# Altium footprint library LIB_COLLAR.PcbLib: 34 footprints (part 1 of 3)
Each footprint in its own frame and in the unit in brackets; x right, y up, seen from the top. Pads: shape width x height; smd on the part's side, far side on the other; paste and mask are expansions set on the pad; w line width, h text height; cw(c..) or ccw(c..) is an arc to the next point about the centre after c.
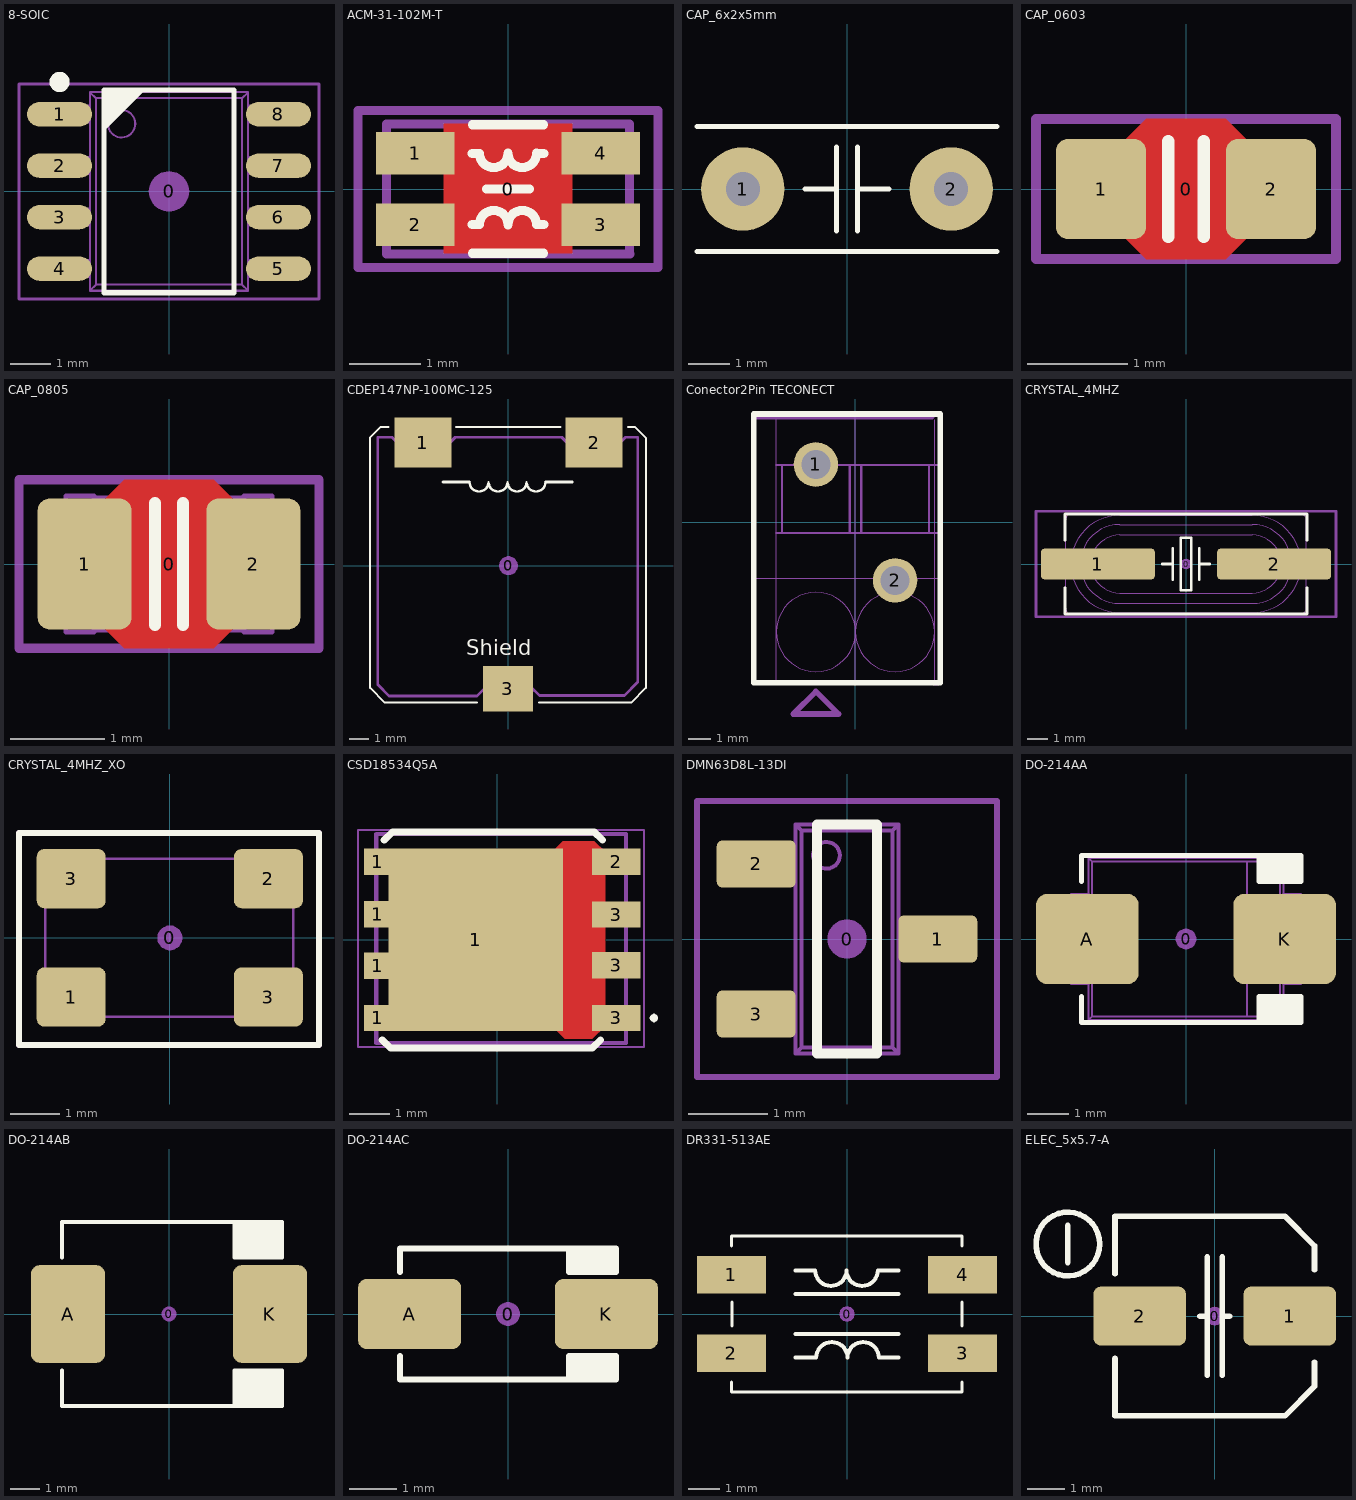
[diagram p0: the footprints below, top view; thin cyan lines are the x and y axes]

## 8-SOIC [mm] "SOIC, 8-Leads, Body 4.9x3.9mm, Pitch 1.27mm, IPC Medium Density"
height 1.75
pads (9):
  round 1 on Mech15: 0(0,0)
  oval 1.6x0.6 smd: 1(-2.7,1.905) 2(-2.7,0.635) 3(-2.7,-0.635) 4(-2.7,-1.905) 5(2.7,-1.905) 6(2.7,-0.635) 7(2.7,0.635) 8(2.7,1.905)
Top Overlay:
  circle w0.25: c-2.7,2.7 r0.125
  region: -1.6,2.5 -0.6,2.5 -1.6,1.5
  lines w0.127: -1.6,-2.5 -1.6,2.5 1.6,2.5 1.6,-2.5 -1.6,-2.5
Mechanical 13:
  circle w0.05: c-1.17,1.67 r0.338
  lines w0.05: -2.631,-2.115 -2.631,-1.695 ; -2.631,-0.845 -2.631,-0.425 ; -2.631,0.425 -2.631,0.845 ; -2.631,1.695 -2.631,2.115 ; -2.543,-2.115 -2.543,-1.695 ; -2.543,-0.845 -2.543,-0.425 ; -2.543,0.425 -2.543,0.845 ; -2.543,1.695 -2.543,2.115 ; -2.403,-2.115 -2.403,-1.695 ; -2.403,-0.845 -2.403,-0.425 ; -2.403,0.425 -2.403,0.845 ; -2.403,1.695 -2.403,2.115 ; -2.113,-2.115 -2.113,-1.695 ; -2.113,-0.845 -2.113,-0.425 ; -2.113,0.425 -2.113,0.845 ; -2.113,1.695 -2.113,2.115 ; -1.95,-2.115 -3,-2.115 -3,-1.695 -1.95,-1.695 ; -1.95,-0.845 -3,-0.845 -3,-0.425 -1.95,-0.425 ; -1.95,0.425 -3,0.425 -3,0.845 -1.95,0.845 ; -1.95,1.695 -3,1.695 -3,2.115 -1.95,2.115 ; 1.95,-2.115 3,-2.115 3,-1.695 1.95,-1.695 ; 1.95,-0.845 3,-0.845 3,-0.425 1.95,-0.425 ; 1.95,0.425 3,0.425 3,0.845 1.95,0.845 ; 1.95,1.695 3,1.695 3,2.115 1.95,2.115 ; 2.113,-2.115 2.113,-1.695 ; 2.113,-0.845 2.113,-0.425 ; 2.113,0.425 2.113,0.845 ; 2.113,1.695 2.113,2.115 ; 2.403,-2.115 2.403,-1.695 ; 2.403,-0.845 2.403,-0.425 ; 2.403,0.425 2.403,0.845 ; 2.403,1.695 2.403,2.115 ; 2.543,-2.115 2.543,-1.695 ; 2.543,-0.845 2.543,-0.425 ; 2.543,0.425 2.543,0.845 ; 2.543,1.695 2.543,2.115 ; 2.631,-2.115 2.631,-1.695 ; 2.631,-0.845 2.631,-0.425 ; 2.631,0.425 2.631,0.845 ; 2.631,1.695 2.631,2.115 ; -1.95,-2.45 1.95,-2.45 ; -1.95,-2.45 -1.95,2.45 ; -1.95,-2.45 -1.801,-2.301 ; -1.95,2.45 -1.801,2.301 ; -1.95,2.45 1.95,2.45 ; -1.801,-2.301 1.801,-2.301 ; -1.801,-2.301 -1.801,2.301 ; -1.801,2.301 1.801,2.301 ; 1.801,-2.301 1.95,-2.45 ; 1.801,-2.301 1.801,2.301 ; 1.801,2.301 1.95,2.45 ; 1.95,-2.45 1.95,2.45
Mechanical 15:
  lines w0.076: -3.7,-2.65 -3.7,2.65 3.7,2.65 3.7,-2.65 -3.7,-2.65
3D body "SOIC-8.STEP": height 1.75, standoff 0, extent -3,-2.45 3,2.45

## ACM-31-102M-T [mm] "Common-mode choke, Body 3.2x1.8x2.2mm"
height 2.2
pads (5):
  round 0.5 on Mech15: 0(0,0)
  rrect1% 1.1x0.6 smd: 1(-1.3,0.5) 2(-1.3,-0.5) 3(1.3,-0.5) 4(1.3,0.5)
Top Layer:
  pour cut-out: -0.9,0.91 0.9,0.91 0.9,-0.9 -0.9,-0.9
Top Overlay:
  lines w0.127: -0.5,-0.9 0.5,-0.9 ; -0.5,-0.5 -0.4,-0.5 cw(c-0.2,-0.5) 0,-0.5 cw(c0.2,-0.5) 0.4,-0.5 0.5,-0.5 ; -0.5,0.5 -0.4,0.5 ccw(c-0.2,0.5) 0,0.5 ccw(c0.2,0.5) 0.4,0.5 0.5,0.5 ; -0.5,0.9 0.5,0.9 ; -0.3,0 0.3,0
Mechanical 13:
  lines w0.127: 1.7,-0.91 1.7,0.91 -1.7,0.91 -1.7,-0.91 1.71,-0.91
Mechanical 15:
  lines w0.127: -2.1,-1.1 2.1,-1.1 2.1,1.1 -2.1,1.1 -2.1,-1.1
3D body "Common mode choke - 1206 SMD.STEP": height 2.2, standoff 0, extent -1.71,-0.91 1.71,0.91

## CAP_6x2x5mm [mm] "Capacitor, THT, Metallized Polyester Film"
height 11
pads (2):
  round 2 hole 0.813: 1(-2.5,0) 2(2.5,0)
Top Overlay:
  lines w0.127: -3.6,-1.5 3.6,-1.5 ; -3.6,1.5 3.6,1.5 ; -1,0 -0.25,0 ; -0.25,-1 -0.25,1 ; 0.25,-1 0.25,1 ; 0.25,0 1,0
3D body "Cap, film, 7.2x2.5x6.5x5LS.STEP": height 7.5, standoff -2, extent -3.6,-1.25 3.6,1.25

## CAP_0603 [mm] "Chip Capacitor, Body 1.6x0.8mm, EIA 0603, IPC Medium Density"
height 0.9
pads (3):
  round 0.254 on Mech15: 0(0,0)
  rrect25% 0.9x1 smd: 1(-0.85,0) 2(0.85,0)
Top Layer:
  pour cut-out: -0.6,0.5 -0.4,0.7 0.4,0.7 0.6,0.5 0.6,-0.5 0.4,-0.7 -0.4,-0.7 -0.6,-0.5
Top Overlay:
  lines w0.127: -0.178,-0.476 -0.178,0.476 ; 0.178,-0.476 0.178,0.476
Mechanical 13:
  lines w0.05: -0.55,-0.43 0.55,-0.43 ; -0.55,0.43 0.55,0.43 ; -0.85,-0.45 -0.55,-0.45 -0.55,0.45 -0.85,0.45 -0.85,-0.45 ; 0.55,-0.45 0.85,-0.45 0.85,0.45 0.55,0.45 0.55,-0.45
Mechanical 15:
  lines w0.1: -1.5,-0.7 1.5,-0.7 1.5,0.7 -1.5,0.7 -1.5,-0.7
3D body "CAP_0603.STEP": height 0.89, standoff -0.01, extent -0.85,-0.45 0.85,0.45

## CAP_0805 [mm] "Chip Capacitor, Body 2.0x1.2mm, EIA 0805, IPC Medium Density"
height 1.35
pads (3):
  round 0.254 on Mech15: 0(0,0)
  rrect25% 1x1.4 smd: 1(-0.9,0) 2(0.9,0)
Top Layer:
  pour cut-out: -0.675,0.7 -0.475,0.9 0.475,0.9 0.675,0.7 0.675,-0.7 0.475,-0.9 -0.475,-0.9 -0.675,-0.7
Top Overlay:
  lines w0.127: -0.15,-0.651 -0.15,0.651 ; 0.15,-0.651 0.15,0.651
Mechanical 13:
  lines w0.05: -0.8,-0.705 0.8,-0.705 ; -0.8,0.705 0.8,0.705 ; -1.1,-0.725 -0.8,-0.725 -0.8,0.725 -1.1,0.725 -1.1,-0.725 ; 0.8,-0.725 0.8,0.725 1.1,0.725 1.1,-0.725 0.8,-0.725
Mechanical 15:
  lines w0.1: -1.6,-0.9 1.6,-0.9 1.6,0.9 -1.6,0.9 -1.6,-0.9
3D body "CAP_0805.STEP": height 1.34, standoff -0.01, extent -1.1,-0.725 1.1,0.725

## CDEP147NP-100MC-125 [mm]
pads (4):
  round 1 on Mech15: 0(0,0)
  rect 3x2.65 smd: 1(-4.5,6.475) 2(4.5,6.475)
  rect 2.65x2.4 smd: 3(-0.025,-6.475)
Top Overlay:
  lines w0.1: -6.3,7.3 -6.725,7.3 -7.275,6.75 -7.275,-6.425 -6.5,-7.2 -1.65,-7.2 ; -2.756,7.3 2.75,7.3 ; 1.6,-7.2 6.45,-7.2 7.225,-6.425 7.225,6.725 6.65,7.3 6.275,7.3
  lines w0.127: -2.05,4.4 ccw(c-1.55,4.4) -1.05,4.4 ccw(c-0.55,4.4) -0.05,4.4 ccw(c0.45,4.4) 0.95,4.4 ccw(c1.45,4.4) 1.95,4.4
  lines w0.15: -3.45,4.4 -2.05,4.4 ; 1.95,4.4 3.35,4.4
  text "Shield" at -2.225,-4.7 h0.8
Mechanical 1:
  lines w0.15: -6.875,-6.25 -6.875,6.75 -6.125,6.75 -5.475,6.1 -3.45,6.1 -2.8,6.75 2.8,6.75 3.45,6.1 5.5,6.1 6.15,6.75 6.8,6.75 6.8,-6.125 6.1,-6.825 1.625,-6.825 1.175,-6.375 -1.175,-6.375 -1.65,-6.85 -6.275,-6.85 -6.875,-6.25
3D body: height 8, standoff 0, extent -6.875,-6.85 6.8,6.75
3D body: height 2, standoff 0, extent -5.8,6.05 -3.125,7.475
3D body: height 2, standoff 0, extent 3.175,6.125 5.85,7.55
3D body: height 2, standoff 0, extent -1.175,-7.175 1.175,-6.375

## Conector2Pin TECONECT [mm]
height 0.305
pads (2):
  round 2 hole 1.3: 1(-1.778,2.6) 2(1.778,-2.6)
Top Overlay:
  lines w0.254: -4.572,-7.199 -3.556,-7.199 -1.778,-7.199 3.81,-7.199 3.81,4.866 -4.572,4.866 -4.572,-7.199
Mechanical 1:
  circle w0.05: c1.778,-4.913 r1.778
  circle w0.05: c-1.778,-4.913 r1.778
  lines w0.05: -4.572,-2.5 3.683,-2.5 ; -3.556,-7.199 -3.556,4.739 ; 0,-7.072 0,-2.5 0,4.739 ; 3.556,-7.199 3.556,4.612
  lines w0.1: -3.556,-0.468 -3.302,-0.468 ; -3.556,2.58 -3.302,2.58 ; -0.254,-0.468 -0.254,2.58 ; 0.254,-0.468 0.254,2.58 ; 3.302,-0.468 3.302,2.58 ; 3.683,-0.468 -3.302,-0.468 ; 3.683,2.58 -3.302,2.58 ; -3.302,-0.468 -3.302,2.58
  lines w0.254: -4.572,4.739 3.302,4.739 -0.254,4.739 3.429,4.739 -0.127,4.739 ; 3.556,-7.199 3.683,-7.199 ; -2.794,-8.596 -1.778,-7.58 -0.762,-8.596 -2.794,-8.596
  text "1" at -4.191,-5.294 h0.9
3D body "c-1-2834011-2-2-3d.stp": height 12.68, standoff -3.75, extent -4.631,-7.103 3.869,4.897

## CRYSTAL_4MHZ [mm] "SMD Crystal HC49/US-SM package"
height 4.3
pads (3):
  round 0.508 on Mech15: 0(0,0)
  rrect25% 5.5x1.5 smd: 1(-4.25,0) 2(4.25,0)
Top Overlay:
  lines w0.127: -5.842,-1.143 -5.842,-2.413 5.842,-2.413 5.842,-1.143 ; -5.842,1.143 -5.842,2.413 5.842,2.413 5.842,1.143 ; -1.143,0 -0.635,0 ; -0.635,-0.762 -0.635,0.762 ; 0.635,-0.762 0.635,0.762 ; 0.635,0 1.143,0 ; -0.254,-1.27 0.254,-1.27 0.254,1.27 -0.254,1.27 -0.254,-1.27
Mechanical 13:
  lines w0.05: -5.8,-0.45 -6.4,-0.45 -6.4,0.45 -5.8,0.45 ; 5.8,-0.45 6.4,-0.45 6.4,0.45 5.8,0.45 ; -5.8,-2.165 ccw(c-5.55,-2.165) -5.55,-2.415 5.55,-2.415 ccw(c5.55,-2.165) 5.8,-2.165 5.8,2.165 ccw(c5.55,2.165) 5.55,2.415 -5.55,2.415 ccw(c-5.55,2.165) -5.8,2.165 -5.8,-2.165 ; -3.2,-2.35 cw(c-3.2,0) -3.2,2.35 3.2,2.35 cw(c3.2,0) 3.2,-2.35 -3.2,-2.35 ; -3.2,-1.9 cw(c-3.2,0) -3.2,1.9 3.2,1.9 cw(c3.2,0) 3.2,-1.9 -3.2,-1.9 ; -3.2,-1.4 cw(c-3.2,0) -3.2,1.4 3.2,1.4 cw(c3.2,0) 3.2,-1.4 -3.2,-1.4
Mechanical 15:
  lines w0.127: -7.239,-2.54 7.239,-2.54 7.239,2.54 -7.239,2.54 -7.239,-2.54
3D body "Crystal HC49_US-SM.STEP": height 4.29, standoff -0.01, extent -6.4,-2.415 6.4,2.415

## CRYSTAL_4MHZ_XO [mm] "SMD Crystal 4-lead leadless package"
height 0.8
pads (5):
  round 0.508 on Mech15: 0(0,0)
  rrect25% 1.4x1.2 smd: 1(-2,-1.2) 2(2,1.2) 3(-2,1.2) 3(2,-1.2)
Top Overlay:
  lines w0.127: -3.059,-2.175 3.025,-2.175 3.025,2.128 -3.059,2.128 -3.059,-2.175
Mechanical 13:
  lines w0.05: -2.525,-1.211 -2.525,1.075 ; -1.536,-1.6 1.45,-1.6 ; -1.45,1.6 1.537,1.6 ; 2.5,-1.262 2.5,1.025
Mechanical 15:
  lines w0.127: -3.059,-2.175 -3.059,2.128 3.025,2.128 3.025,-2.175 -3.059,-2.175
3D body "ABM3B.STEP": height 1.1, standoff -0.01, extent -2.5,-1.587 2.5,1.588

## CSD18534Q5A [mm] "N-Channel 60V 13A (Ta), 50A (Tc) 3.1W (Ta), 77W (Tc) Surface Mount"
pads (9):
  rect 0.67x0.65 smd paste-0.1: 1(-2.937,-1.925) 1(-2.937,-0.635) 1(-2.937,0.635) 1(-2.937,1.925)
  rect 4.3x4.5 smd paste-4 mask+0.102: 1(-0.524,0)
  rect 1.2x0.65 smd paste-0.1: 2(2.937,1.925) 3(2.937,-1.925) 3(2.937,-0.625) 3(2.937,0.625)
Top Layer:
  pour cut-out: 1.373,2.184 1.623,2.434 2.399,2.434 2.662,2.17 2.662,-2.127 2.348,-2.441 1.673,-2.441 1.373,-2.141
Top Overlay:
  region: 3.866,-2.025 3.885,-2.025 3.922,-2.009 3.95,-1.981 3.966,-1.944 3.966,-1.925 3.966,-1.905 3.95,-1.868 3.922,-1.84 3.885,-1.825 3.866,-1.825 3.846,-1.825 3.809,-1.84 3.781,-1.868 3.766,-1.905 3.766,-1.925 3.766,-1.944 3.781,-1.981 3.809,-2.009 3.846,-2.025
  lines w0.18: -2.827,-2.466 -2.627,-2.666 2.348,-2.666 2.548,-2.466 ; -2.776,2.459 -2.576,2.659 2.398,2.659 2.599,2.459
Top Paste:
  rectangle: -2.077,0.409 -0.502,1.984
  rectangle: -2.077,-1.991 -0.502,-0.416
  rectangle: -0.002,0.409 1.249,1.984
  rectangle: -0.002,-1.991 1.249,-0.416
Mechanical 13:
  lines w0.1: -2.976,-2.541 -2.976,2.609 3.174,2.609 3.174,-2.541 -2.976,-2.541
Mechanical 15:
  lines w0.05: -3.426,-2.641 -3.426,2.709 3.624,2.709 3.624,-2.641 -3.426,-2.641
  lines w0.1: -0.401,0.034 0.599,0.034 ; 0.099,-0.466 0.099,0.534
3D body: height 1, standoff 0, extent -2.952,-2.566 3.199,2.584

## DMN63D8L-13DI [mm] "SOT23, 3 pin"
height 1.003
pads (4):
  round 0.5 on Mech15: 0(0,0)
  rrect25% 1x0.6 smd: 1(1.15,0) 2(-1.15,0.95) 3(-1.15,-0.95)
Top Overlay:
  lines w0.127: -0.381,-1.45 0.381,-1.45 0.381,1.45 -0.381,1.45 -0.381,-1.45
  text "." at -2.125,0.95 h0.1
Mechanical 13:
  circle w0.05: c-0.26,1.06 r0.169
  lines w0.05: -1.19,-1.19 -1.19,-0.71 ; -1.19,0.71 -1.19,1.19 ; -1.099,-1.19 -1.099,-0.71 ; -1.099,0.71 -1.099,1.19 ; -1.074,-1.19 -1.074,-0.71 ; -1.074,0.71 -1.074,1.19 ; -0.825,-1.19 -0.825,-0.71 ; -0.825,0.71 -0.825,1.19 ; -0.65,-1.19 -1.4,-1.19 -1.4,-0.71 -0.65,-0.71 ; -0.65,0.71 -1.4,0.71 -1.4,1.19 -0.65,1.19 ; 0.65,-0.24 1.4,-0.24 1.4,0.24 0.65,0.24 ; 0.825,-0.24 0.825,0.24 ; 1.074,-0.24 1.074,0.24 ; 1.099,-0.24 1.099,0.24 ; 1.19,-0.24 1.19,0.24 ; -0.65,-1.45 -0.576,-1.376 ; -0.65,-1.45 -0.65,1.45 ; -0.65,-1.45 0.65,-1.45 ; -0.65,1.45 0.65,1.45 ; -0.65,1.45 -0.576,1.376 ; -0.576,-1.376 -0.576,1.376 ; -0.576,-1.376 0.576,-1.376 ; -0.576,1.376 0.576,1.376 ; 0.576,-1.376 0.576,1.376 ; 0.576,-1.376 0.65,-1.45 ; 0.576,1.376 0.65,1.45 ; 0.65,-1.45 0.65,1.45
Mechanical 15:
  lines w0.076: -1.9,-1.75 1.9,-1.75 1.9,1.75 -1.9,1.75 -1.9,-1.75
3D body "SOT23-3.STEP": height 1.29, standoff -0.01, extent -1.4,-1.45 1.4,1.45

## DO-214AA [mm] "JEDEC DO214 variation AA. SMB"
height 2.65
pads (3):
  round 0.508 on Mech15: 0(0,0)
  rrect25% 2.5x2.2 smd: A(-2.4,0) K(2.4,0)
Top Overlay:
  region: 1.778,1.397 1.778,2.032 2.794,2.032 2.794,1.397
  region: 1.778,-1.397 1.778,-2.032 2.794,-2.032 2.794,-1.397
  lines w0.127: -2.54,-1.397 -2.54,-2.032 1.778,-2.032 ; -2.54,1.397 -2.54,2.032 1.778,2.032 ; 1.778,-2.032 1.778,-1.397 2.794,-1.397 2.794,-2.032 1.778,-2.032 ; 1.778,2.032 2.794,2.032 2.794,1.397 1.778,1.397 1.778,2.032
Mechanical 13:
  lines w0.05: -2.375,-1.1 -2.375,-1.973 ; -2.375,1.1 -2.375,1.973 ; 2.375,-1.1 2.375,-1.973 ; 2.375,1.1 2.375,1.973 ; -2.375,-1.973 -2.373,-1.975 2.373,-1.975 2.375,-1.973 ; -2.375,-1.973 -2.285,-1.883 ; -2.375,1.973 -2.373,1.975 2.373,1.975 2.375,1.973 ; -2.375,1.973 -2.285,1.883 ; -2.285,-1.883 1.485,-1.884 ; -2.285,-1.883 -2.285,1.883 ; -2.285,1.883 1.485,1.884 ; 1.485,-1.884 2.285,-1.884 ; 1.485,-1.884 1.485,1.884 ; 1.485,1.884 2.285,1.884 ; 2.285,-1.884 2.285,1.884 ; 2.285,-1.884 2.375,-1.973 ; 2.285,1.884 2.375,1.973 ; -2.8,-1.1 -2.356,-1.1 -2.356,1.1 -2.8,1.1 -2.8,-1.1 ; 2.356,-1.1 2.8,-1.1 2.8,1.1 2.356,1.1 2.356,-1.1
3D body "DO-214AA.STEP": height 2.62, standoff 0, extent -2.8,-1.975 2.8,1.975

## DO-214AB [mm] "JEDEC DO214 variation AB. SMC"
height 2.5
pads (3):
  round 0.508 on Mech15: 0(0,0)
  rrect25% 2.5x3.3 smd: A(-3.4,0) K(3.4,0)
Top Overlay:
  rectangle: 2.2,1.9 3.8,3.1
  rectangle: 2.2,-3.1 3.8,-1.9
  lines w0.127: -3.6,-1.9 -3.6,-3.1 3.8,-3.1 3.8,-1.9 2.2,-1.9 2.2,-3.1 ; -3.6,1.9 -3.6,3.1 3.8,3.1 3.8,1.9 2.2,1.9 2.2,3.1
3D body: height 2.62, standoff 0.01, extent -3.975,-2.975 4.05,2.975

## DO-214AC [mm] "JEDEC DO214 variation AC. SMA"
height 2.5
pads (3):
  round 0.508 on Mech15: 0(0,0)
  rrect25% 2.2x1.5 smd: A(-2.1,0) K(2.1,0)
Top Overlay:
  rectangle: 1.3,-1.4 2.3,-0.9
  rectangle: 1.3,0.9 2.3,1.4
  lines w0.127: -2.3,-0.9 -2.3,-1.4 2.3,-1.4 2.3,-0.9 1.3,-0.9 1.3,-1.4 ; -2.3,0.9 -2.3,1.4 2.3,1.4 2.3,0.9 1.3,0.9 ; 1.3,0.911 1.3,1.4
3D body "SW3dPS-DO-214AC SMA.STEP": height 2.42, standoff 0.02, extent -2.6,-1.3 2.6,1.3

## DR331-513AE [mm] "DR331 Series Surface Mount Data Line Chokes"
pads (5):
  round 0.5 on Mech15: 0(0,0)
  rect 2.2x1.2 smd: 1(-3.7,1.25) 2(-3.7,-1.25) 3(3.7,-1.25) 4(3.7,1.25)
Top Overlay:
  lines w0.1: -3.7,-2.176 -3.7,-2.5 3.683,-2.5 3.683,-2.176 ; -3.7,2.176 -3.7,2.5 3.683,2.5 3.683,2.176 ; -3.683,-0.381 -3.683,0.381 ; 3.683,-0.381 3.683,0.381
  lines w0.127: -1.651,-1.397 -1.016,-1.397 ; -1.651,-0.635 1.651,-0.635 ; -1.651,0.635 1.651,0.635 ; -1.651,1.397 -1.016,1.397 ccw(c-0.516,1.397) -0.016,1.397 ccw(c0.484,1.397) 0.984,1.397 ; -0.984,-1.397 cw(c-0.484,-1.397) 0.016,-1.397 cw(c0.516,-1.397) 1.016,-1.397 1.651,-1.397 ; 1.016,1.397 1.651,1.397
3D body: height 0.3, standoff 0, extent 3.082,-1.865 4.606,-0.595
3D body: height 0.3, standoff 0, extent 3.082,0.635 4.606,1.905
3D body: height 0.3, standoff 0, extent -4.318,-1.865 -2.794,-0.595
3D body: height 0.3, standoff 0, extent -4.318,0.635 -2.794,1.905
3D body: height 4.7, standoff 0, extent -3.683,-2.413 3.683,2.413

## ELEC_5x5.7-A [mm] "Capacitor, polarized, aluminum can; 5x5.7mm DxH"
height 5.7
pads (3):
  round 0.508 on Mech15: 0(0,0)
  rrect25% 2.5x1.6 smd: 1(2.032,0) 2(-2.032,0)
Top Overlay:
  circle w0.152: c-3.975,1.95 r0.862
  lines w0.152: -3.975,1.45 -3.975,2.45 ; -2.7,-1.15 -2.7,-2.7 1.9,-2.7 2.7,-1.9 2.7,-1.25 ; -2.7,1.15 -2.7,2.7 1.9,2.7 2.7,1.9 2.7,1.25 ; -0.4,0 -0.2,0 ; -0.2,-1.6 -0.2,1.6 ; 0.2,-1.6 0.2,1.6 ; 0.2,0 0.4,0
3D body "Cap, elec, 5x5.7_.STEP": height 5.7, standoff 0, extent -2.65,-2.65 2.65,2.65